# Altium footprint library APH1040T100M.PcbLib: 1 footprints
Each footprint in its own frame and in the unit in brackets; x right, y up, seen from the top. Pads: shape width x height; smd on the part's side, far side on the other; paste and mask are expansions set on the pad; w line width, h text height; cw(c..) or ccw(c..) is an arc to the next point about the centre after c.
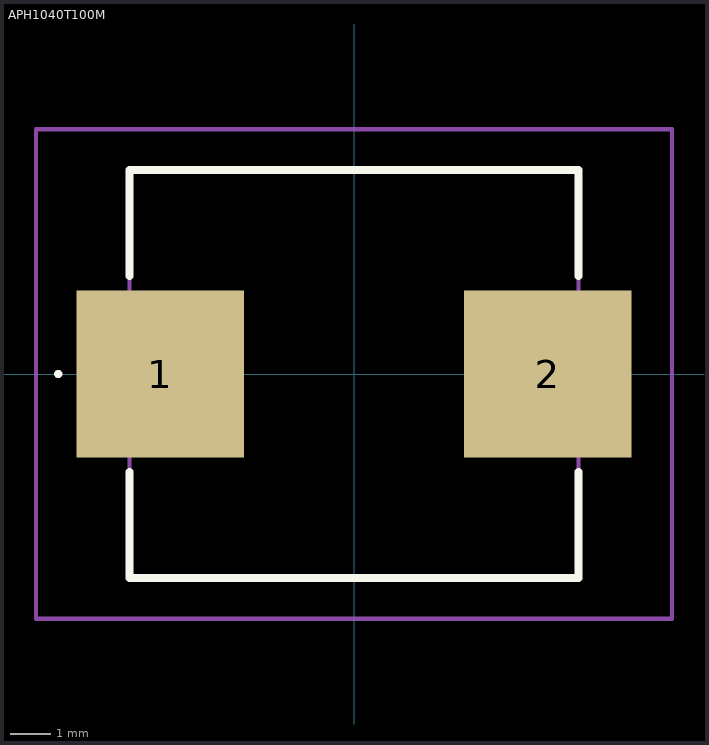
[diagram p0: the footprint, top view; thin cyan lines are the x and y axes]

## APH1040T100M [mm]
pads (2):
  rect 4.1x4.1 smd: 1(-4.75,0) 2(4.75,0)
Top Overlay:
  lines w0.1: -7.3,0 cw(c-7.25,0) -7.2,0 ; -7.3,0 -7.3,0 ; -7.3,0 ccw(c-7.25,0) -7.2,0 ; -7.2,0 -7.2,0
  lines w0.2: -5.5,-2.4 -5.5,-5 5.5,-5 5.5,-2.4 ; -5.5,2.4 -5.5,5 5.5,5 5.5,2.4
Mechanical 15:
  lines w0.1: -5.5,-5 5.5,-5 5.5,5 -5.5,5 -5.5,-5
Mechanical 20:
  lines w0.1: -7.8,-6 7.8,-6 7.8,6 -7.8,6 -7.8,-6